# EAGLE library part 4816P-T01-101LF (library PowerManagementParts)
SOIC16L(300mils) 8 individual 100 ohm resistor package. https://www.digikey.com/products/en?keywords=4816P-T01-101LF-ND%09
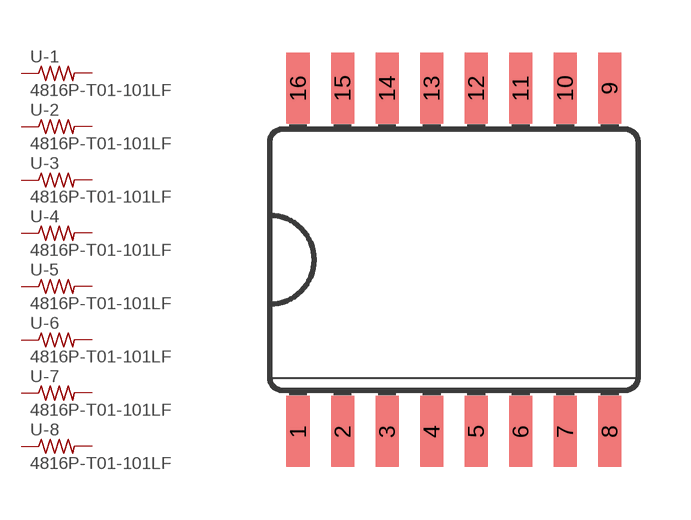
[diagram p2: symbol with the pads of SO16L; footprint SO16L]

Designator prefix -; gates -1=R-US -2=R-US -3=R-US -4=R-US -5=R-US -6=R-US -7=R-US -8=R-US

## 4816P-T01-101LF  [SO16L]
1  -1:1  pas
2  -2:1  pas
3  -3:1  pas
4  -4:1  pas
5  -5:1  pas
6  -6:1  pas
7  -7:1  pas
8  -8:1  pas
9  -8:2  pas
10  -7:2  pas
11  -6:2  pas
12  -5:2  pas
13  -4:2  pas
14  -3:2  pas
15  -2:2  pas
16  -1:2  pas

## Footprint SO16L (pad centres in mm)
Small Outline Package .300 SIOC Source: http://www.maxim-ic.com/cgi-bin/packages?pkg=16%2FSOIC%2E300&Type=Max
smd 0.66 x 2.032: 1 -4.445,-4.902; 2 -3.175,-4.902; 3 -1.905,-4.902; 4 -0.635,-4.902; 5 0.635,-4.902; 6 1.905,-4.902; 7 3.175,-4.902; 8 4.445,-4.902; 9 4.445,4.902; 10 3.175,4.902; 11 1.905,4.902; 12 0.635,4.902; 13 -0.635,4.902; 14 -1.905,4.902; 15 -3.175,4.902; 16 -4.445,4.902